# Altium footprint library X talk rez1.PcbLib: 1 footprints
Each footprint in its own frame and in the unit in brackets; x right, y up, seen from the top. Pads: shape width x height; smd on the part's side, far side on the other; paste and mask are expansions set on the pad; w line width, h text height; cw(c..) or ccw(c..) is an arc to the next point about the centre after c.
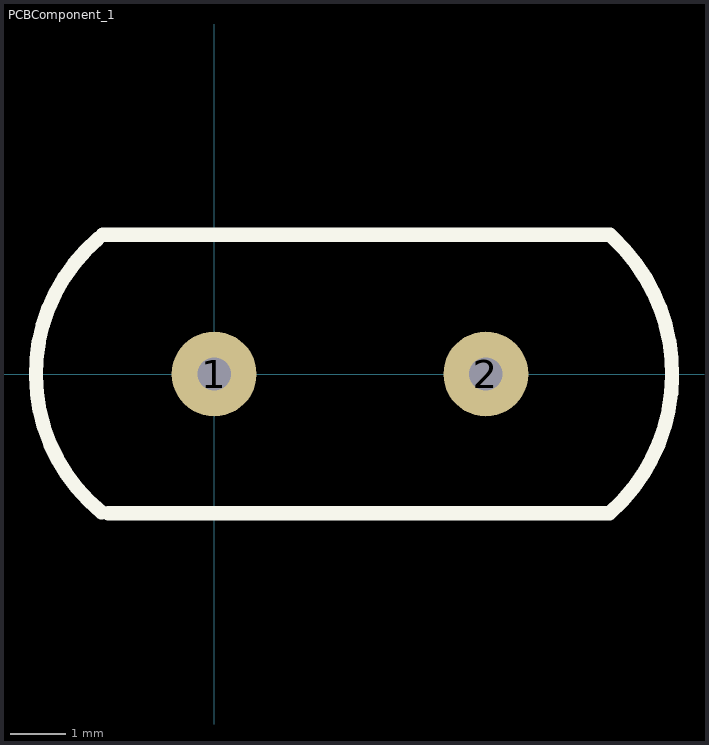
[diagram p0: the footprint, top view; thin cyan lines are the x and y axes]

## PCBComponent_1 [mil]
pads (2):
  round 60 hole 23.62: 1(0,0) 2(192.13,0)
Top Overlay:
  lines w10: -82.03,95.7 ccw(c0,0) -79.62,-97.72 ; -78.74,98.43 279.81,98.43 281.56,96.68 cw(c192.13,0) 279.57,-98.48 ; -74.8,-98.43 279.53,-98.43